# Altium footprint library MM6108IQ MotherBoard.PcbLib: 16 footprints
Each footprint in its own frame and in the unit in brackets; x right, y up, seen from the top. Pads: shape width x height; smd on the part's side, far side on the other; paste and mask are expansions set on the pad; w line width, h text height; cw(c..) or ccw(c..) is an arc to the next point about the centre after c.
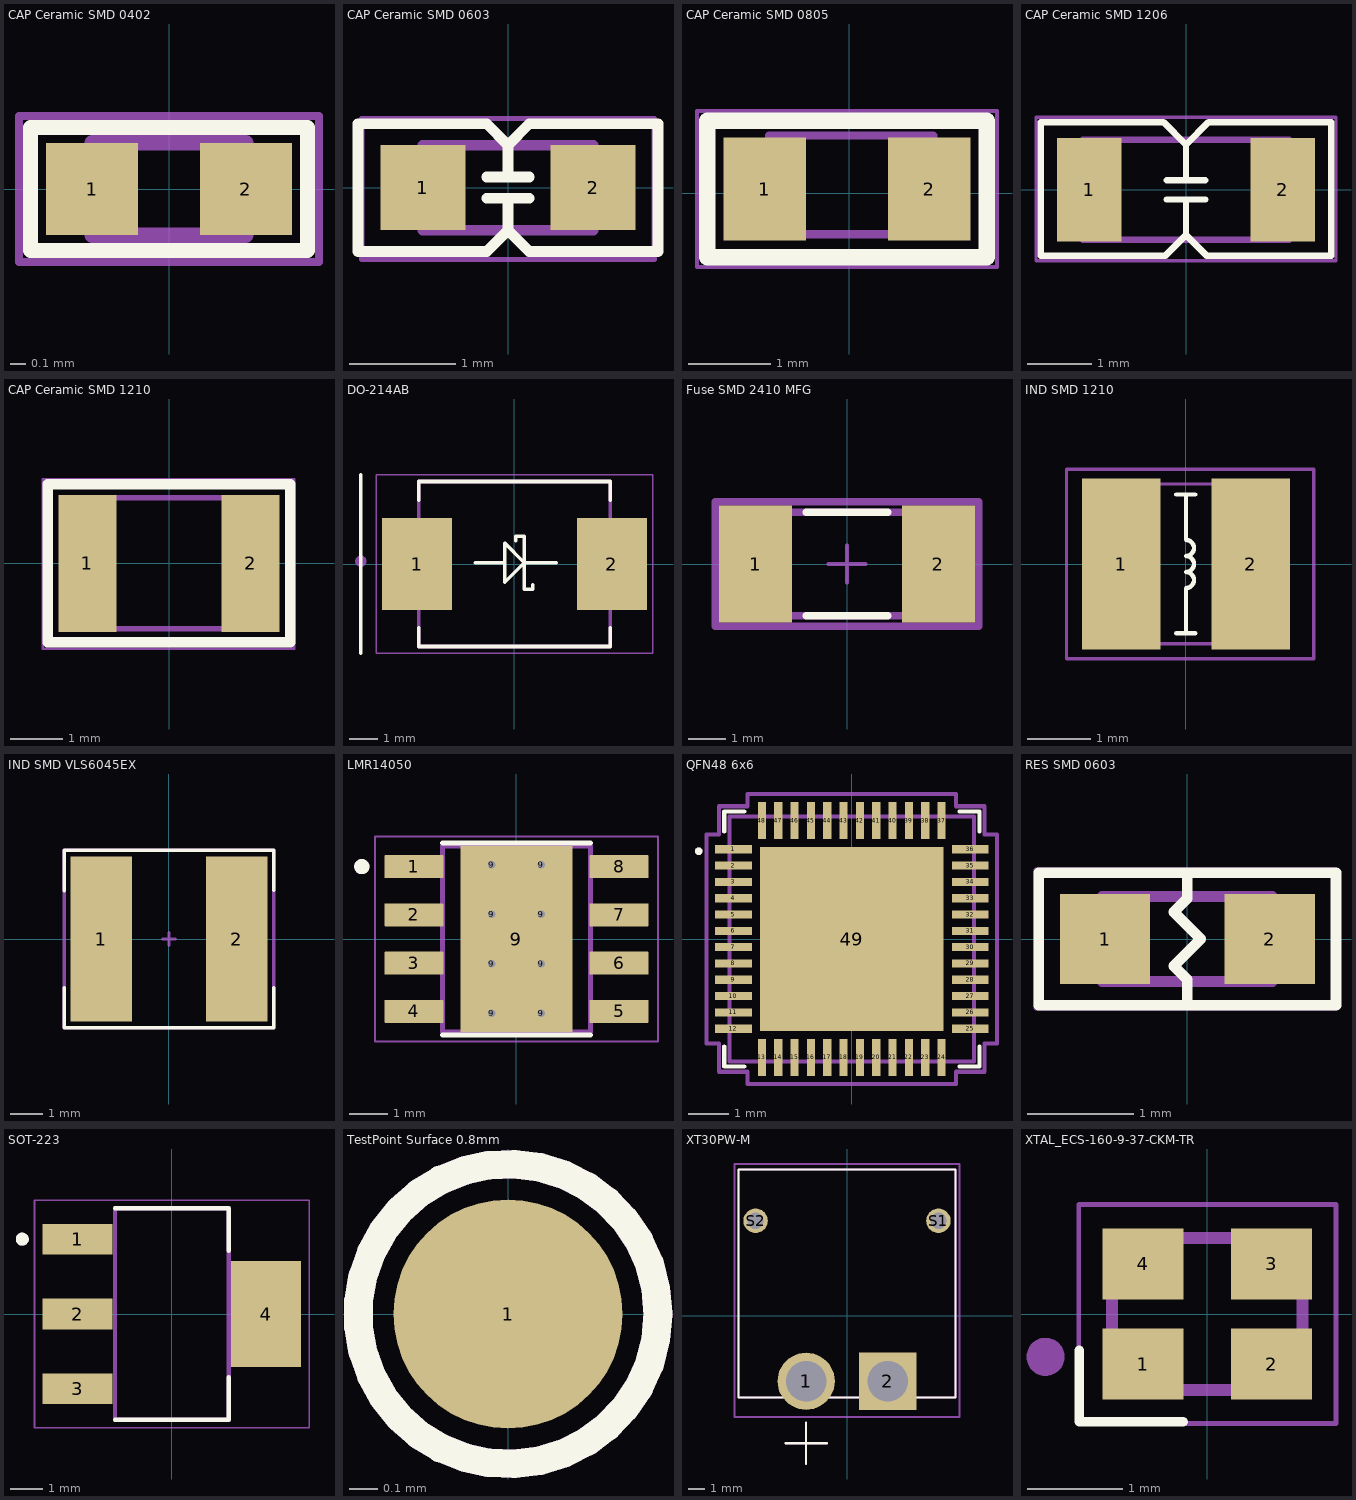
[diagram p0: the footprints below, top view; thin cyan lines are the x and y axes]

## CAP Ceramic SMD 0402 [mm]
pads (2):
  rect 0.6x0.6 smd mask+0.05: 1(-0.5,0) 2(0.5,0)
Top Overlay:
  lines w0.1: -0.9,-0.4 -0.9,0.4 0.9,0.4 0.9,-0.4 -0.9,-0.4
  text ".Comment" at -0.8,0.7 h0.7
Top Designator:
  text ".Designator" at -0.5,-0.2 h0.3
Top 3D Body:
  lines w0.1: -0.5,-0.3 0.5,-0.3 0.5,0.3 -0.5,0.3 -0.5,-0.3
Top Courtyard:
  lines w0.05: -0.975,-0.475 -0.975,0.475 0.975,0.475 0.975,-0.475 -0.975,-0.475
3D body "User Library-0402(1005M) Cap.step": height 0.51, standoff 0, extent -0.508,-0.254 0.508,0.254

## CAP Ceramic SMD 0603 [mm]
pads (2):
  rect 0.8x0.8 smd: 1(-0.8,0) 2(0.8,0)
Top Overlay:
  lines w0.1: -0.2,-0.1 0.2,-0.1 ; -0.2,0.1 0.2,0.1 ; 0,-0.1 0,-0.4 ; 0,0.1 0,0.4 ; 0,-0.4 0.2,-0.6 1.41,-0.6 1.41,0.6 0.2,0.6 0,0.4 ; 0,-0.4 -0.2,-0.6 -1.41,-0.6 -1.41,0.6 -0.2,0.6 0,0.4
  text ".Comment" at -1.775,1.125 h0.7
Top Designator:
  text ".Designator" at -0.873,-0.44 h1
Top 3D Body:
  lines w0.1: -0.8,-0.4 -0.8,0.4 0.8,0.4 0.8,-0.4 -0.8,-0.4
Top Courtyard:
  lines w0.05: -1.375,-0.675 -1.375,0.65 1.375,0.65 1.375,-0.675 -1.375,-0.675
3D body "SW3dPS-0603 SMD Capacitor.STEP": height 0.3, standoff 0, extent -0.8,-0.4 0.8,0.4

## CAP Ceramic SMD 0805 [mm]
pads (2):
  rect 1x1.25 smd: 1(-1.025,0.05) 2(0.975,0.05)
Top Overlay:
  lines w0.2: -1.727,-0.778 1.677,-0.778 1.677,0.881 -1.727,0.881 -1.727,-0.778
  text ".Comment" at -1.325,1.25 h1
Top Designator:
  text ".Designator" at -1.125,-0.517 h1
Top 3D Body:
  lines w0.1: -0.974,-0.5 -0.974,0.7 1.025,0.7 1.025,-0.5 -0.974,-0.5
Top Courtyard:
  lines w0.05: -1.85,-0.9 -1.85,1 1.8,1 1.8,-0.9 -1.85,-0.9
3D body "SW3dPS-0805 SMD Capacitor.STEP": height 0.78, standoff 0, extent -1,-0.525 1,0.725

## CAP Ceramic SMD 1206 [mm]
pads (2):
  rect 1x1.6 smd: 1(-1.5,0) 2(1.5,0)
Top Overlay:
  lines w0.1: -0.3,-0.15 0.3,-0.15 ; -0.3,0.15 0.3,0.15 ; 0,-0.15 0,-0.7 ; 0,0.15 0,0.7 ; 0,-0.7 0.325,-1.025 2.25,-1.025 2.25,1.05 0.35,1.05 0,0.7 ; 0,-0.7 -0.325,-1.025 -2.25,-1.025 -2.25,1.05 -0.35,1.05 0,0.7
  text ".Comment" at -1.273,1.627 h1
Top Designator:
  text ".Designator" at -1.5,-0.667 h1
Top 3D Body:
  lines w0.1: -1.6,-0.775 -1.6,0.775 1.6,0.775 1.6,-0.775 -1.6,-0.775
Top Courtyard:
  lines w0.05: -2.325,-1.1 2.325,-1.1 2.325,1.125 -2.325,1.125 -2.325,-1.1
3D body "SW3dPS-1206 SMD Capacitor.STEP": height 1, standoff 0, extent -1.6,-0.8 1.6,0.8

## CAP Ceramic SMD 1210 [mm]
pads (2):
  rect 1.1x2.6 smd: 1(-1.55,0) 2(1.55,0)
Top Overlay:
  lines w0.2: -2.3,-1.5 -2.3,1.5 2.3,1.5 2.3,-1.5 -2.3,-1.5
  text ".Comment" at -1.673,1.927 h1
Top Designator:
  text ".Designator" at -1.7,-1.067 h1
Top 3D Body:
  lines w0.1: -2,-1.244 2,-1.244 2,1.245 -2,1.245 -2,-1.244
Top Courtyard:
  lines w0.05: -2.4,-1.625 2.375,-1.625 2.375,1.6 -2.4,1.6 -2.4,-1.625
3D body "User Library-1210(3225M) Cap.STEP": height 1.7, standoff 0, extent -2,-1.244 2,1.245

## DO-214AB [mm]
pads (2):
  rect 2.5x3.3 smd: 1(-3.485,0) 2(3.485,0)
Top Overlay:
  lines w0.127: -5.5,-3.2 -5.5,3.2 ; -3.427,-2.286 -3.427,-2.953 3.427,-2.953 3.427,-2.286 ; -3.427,2.286 -3.427,2.953 3.427,2.953 3.427,2.286 ; -1.4,0.05 -0.35,0.05 ; 0.053,0.841 0.05,0.844 0.05,1 0.35,1 ; 0.65,-0.739 0.65,-0.9 0.35,-0.9 0.35,0.05 ; 1.5,0.05 0.35,0.05 ; -0.35,0.05 -0.35,0.75 ; -0.35,0.05 -0.35,0.75 ; -0.35,0.05 -0.35,-0.65 0.35,0.05 ; -0.35,0.75 0.35,0.05 ; 0.35,0.05 0.35,1 ; 0.35,0.05 0.35,1
Top Designator:
  text ".Designator" at -1.95,-0.212 h1.52
Top 3D Body:
  circle w0.2: c-5.5,0.1 r0.1
  lines w0.127: -3.427,-2.953 -3.427,2.953 3.427,2.953 3.427,-2.953 -3.427,-2.953
Top Courtyard:
  lines w0.05: -4.953,-3.203 -4.953,3.203 4.953,3.203 4.953,-3.203 -4.953,-3.203
3D body "SMCJ70CA--3DModel-STEP-56544.STEP": height 2.62, standoff 0, extent -3.969,-2.953 3.969,2.953

## Fuse SMD 2410 MFG [mm]
pads (2):
  rect 1.96x3.15 smd paste+0 mask+0: 1(-2.455,0) 2(2.455,0)
Top Overlay:
  lines w0.2: -1.1,-1.395 1.1,-1.395 ; -1.1,1.395 1.1,1.395
Top Component Center:
  lines w0.1: -0.5,0 0.5,0 ; 0,-0.5 0,0.5
Top Assembly:
  lines w0.2: -3.535,-1.675 -3.535,1.675 3.535,1.675 3.535,-1.675 -3.535,-1.675
  text ".Designator" at 0,0.189 h1
Top 3D Body:
  lines w0.2: -3.175,-1.395 -3.175,1.395 3.175,1.395 3.175,-1.395 -3.175,-1.395
Top Courtyard:
  lines w0.2: -3.535,-1.675 -3.535,1.675 3.535,1.675 3.535,-1.675 -3.535,-1.675
3D body "Fuse_Bel_Fuse_0679L9150-01_eec.STEP": height 0.25, standoff 0, extent -3.535,-1.675 3.535,1.675

## IND SMD 1210 [mm]
pads (2):
  rect 1.25x2.7 smd: 1(-1.025,0) 2(1.025,0)
Top Overlay:
  lines w0.07: -0.153,-1.099 0.147,-1.099 ; -0.153,1.101 0.147,1.101 ; 0,-1.099 0,-0.381 ccw(c0,-0.254) 0,-0.127 ccw(c0,0) 0,0.127 ccw(c0,0.254) 0,0.381 0,1.101
Top Component Center:
  lines w0.05: -1.616,-1.262 1.575,-1.262 1.575,1.268 -1.616,1.268 -1.616,-1.262
Top Designator:
  text ".Designator" at -1.617,-0.143 h0.8
Top Courtyard:
  lines w0.05: -1.893,-1.5 -1.893,1.5 2.023,1.5 2.023,-1.5 -1.893,-1.5
3D body "Download_STP_WE-PMCI-1210+%28rev1%29.stp": height 1.01, standoff 0.01, extent -1.597,-1.25 1.597,1.25

## IND SMD VLS6045EX [mm]
pads (2):
  rect 1.9x5.1 smd: 1(-2.1,0) 2(2.1,0)
Top Overlay:
  lines w0.1: -3.25,-1.5 -3.25,-2.75 3.25,-2.75 3.25,-1.5 ; -3.25,1.494 -3.25,2.75 3.25,2.75 3.25,1.5
Top Designator:
  text ".Designator" at -3.218,-2.208 h1.52
Top 3D Body:
  lines w0.1: -3.25,2.75 -3.25,-2.75 3.25,-2.75 3.25,2.75 -3.241,2.75
Top Courtyard:
  lines w0.1: -0.2,0 0.2,0 ; 0,-0.2 0,0.2 ; -3.25,-2.75 3.25,-2.75 3.25,2.75 -3.25,2.75 -3.25,-2.75
3D body "VLS6045EX150M.STEP": height 4.51, standoff 0.01, extent -3,-3 3,3

## LMR14050 [mm]
pads (17):
  rrect5% 1.55x0.6 smd mask+0: 1(-2.7,1.905) 2(-2.7,0.635) 3(-2.7,-0.635) 4(-2.7,-1.905) 5(2.7,-1.905) 6(2.7,-0.635) 7(2.7,0.635) 8(2.7,1.905)
  round 0.3 hole 0.2: 9(-0.65,-1.95) 9(-0.65,-0.65) 9(-0.65,0.65) 9(-0.65,1.95) 9(0.65,-1.95) 9(0.65,-0.65) 9(0.65,0.65) 9(0.65,1.95)
  rect 2.95x4.9 smd paste-3 mask+0: 9(0,0)
Top Overlay:
  circle w0.2: c-4.07,1.905 r0.1
  lines w0.127: -1.95,-2.525 1.95,-2.525 ; -1.95,2.525 1.95,2.525
Top Paste:
  region: 1.355,-1.7 -1.355,-1.7 -1.355,1.7 1.355,1.7
Top Solder:
  drawing of 9 lines, arcs and shapes, not listed
Top Component Outline:
  circle w0.2: c-4.07,1.905 r0.1
  lines w0.127: -1.95,-2.45 1.95,-2.45 1.95,2.45 -1.95,2.45 -1.95,-2.45
Top Courtyard:
  lines w0.05: -3.725,-2.7 3.725,-2.7 3.725,2.7 -3.725,2.7 -3.725,-2.7
3D body "step_temp.STEP": height 1.7, standoff 0, extent -3,-2.45 3,2.45

## QFN48 6x6 [mm]
pads (49):
  rect 0.9x0.2 smd: 1(-2.9,2.2) 2(-2.9,1.8) 3(-2.9,1.4) 4(-2.9,1) 5(-2.9,0.6) 6(-2.9,0.2) 7(-2.9,-0.2) 8(-2.9,-0.6) 9(-2.9,-1) 10(-2.9,-1.4) 11(-2.9,-1.8) 12(-2.9,-2.2) 25(2.9,-2.2) 26(2.9,-1.8) 27(2.9,-1.4) 28(2.9,-1) 29(2.9,-0.6) 30(2.9,-0.2) 31(2.9,0.2) 32(2.9,0.6) 33(2.9,1) 34(2.9,1.4) 35(2.9,1.8) 36(2.9,2.2)
  rect 0.2x0.9 smd: 13(-2.2,-2.9) 14(-1.8,-2.9) 15(-1.4,-2.9) 16(-1,-2.9) 17(-0.6,-2.9) 18(-0.2,-2.9) 19(0.2,-2.9) 20(0.6,-2.9) 21(1,-2.9) 22(1.4,-2.9) 23(1.8,-2.9) 24(2.2,-2.9) 37(2.2,2.9) 38(1.8,2.9) 39(1.4,2.9) 40(1,2.9) 41(0.6,2.9) 42(0.2,2.9) 43(-0.2,2.9) 44(-0.6,2.9) 45(-1,2.9) 46(-1.4,2.9) 47(-1.8,2.9) 48(-2.2,2.9)
  rect 4.5x4.5 smd: 49(0,0)
Top Overlay:
  circle w0.1: c-3.75,2.15 r0.041
  lines w0.1: -3.124,-2.634 -3.124,-3.124 -2.634,-3.124 ; -3.124,2.634 -3.124,3.124 -2.634,3.124 ; 2.634,-3.124 3.124,-3.124 3.124,-2.634 ; 2.634,3.124 3.124,3.124 3.124,2.634
Top Paste:
  region: 1.602,-0.1 0.1,-0.1 0.1,-1.602 1.602,-1.602
  region: 1.602,1.602 0.1,1.602 0.1,0.1 1.602,0.1
  region: -0.1,-0.1 -1.602,-0.1 -1.602,-1.602 -0.1,-1.602
  region: -0.1,1.602 -1.602,1.602 -1.602,0.1 -0.1,0.1
Top Component Outline:
  circle w0.1: c-3.75,2.15 r0.041
  lines w0.1: -2.997,-2.997 2.997,-2.997 2.997,2.997 -2.997,2.997 -2.997,-2.997 ; -2.997,-2.327 -2.997,-2.073 -2.997,-2.327 ; -2.997,-1.927 -2.997,-1.673 -2.997,-1.927 ; -2.997,-1.527 -2.997,-1.273 -2.997,-1.527 ; -2.997,-1.127 -2.997,-0.873 -2.997,-1.127 ; -2.997,-0.727 -2.997,-0.473 -2.997,-0.727 ; -2.997,-0.327 -2.997,-0.073 -2.997,-0.327 ; -2.997,0.073 -2.997,0.327 -2.997,0.073 ; -2.997,0.473 -2.997,0.727 -2.997,0.473 ; -2.997,0.873 -2.997,1.127 -2.997,0.873 ; -2.997,1.273 -2.997,1.527 -2.997,1.273 ; -2.997,1.673 -2.997,1.927 -2.997,1.673 ; -2.997,2.073 -2.997,2.327 -2.997,2.073 ; -2.327,-2.997 -2.073,-2.997 -2.327,-2.997 ; -2.327,2.997 -2.073,2.997 -2.327,2.997 ; -1.927,-2.997 -1.673,-2.997 -1.927,-2.997 ; -1.927,2.997 -1.673,2.997 -1.927,2.997 ; -1.527,-2.997 -1.273,-2.997 -1.527,-2.997 ; -1.527,2.997 -1.273,2.997 -1.527,2.997 ; -1.127,-2.997 -0.873,-2.997 -1.127,-2.997 ; -1.127,2.997 -0.873,2.997 -1.127,2.997 ; -0.727,-2.997 -0.473,-2.997 -0.727,-2.997 ; -0.727,2.997 -0.473,2.997 -0.727,2.997 ; -0.327,-2.997 -0.073,-2.997 -0.327,-2.997 ; -0.327,2.997 -0.073,2.997 -0.327,2.997 ; 0.073,-2.997 0.327,-2.997 0.073,-2.997 ; 0.073,2.997 0.327,2.997 0.073,2.997 ; 0.473,-2.997 0.727,-2.997 0.473,-2.997 ; 0.473,2.997 0.727,2.997 0.473,2.997 ; 0.873,-2.997 1.127,-2.997 0.873,-2.997 ; 0.873,2.997 1.127,2.997 0.873,2.997 ; 1.273,-2.997 1.527,-2.997 1.273,-2.997 ; 1.273,2.997 1.527,2.997 1.273,2.997 ; 1.673,-2.997 1.927,-2.997 1.673,-2.997 ; 1.673,2.997 1.927,2.997 1.673,2.997 ; 2.073,-2.997 2.327,-2.997 2.073,-2.997 ; 2.073,2.997 2.327,2.997 2.073,2.997 ; 2.997,-2.327 2.997,-2.073 2.997,-2.327 ; 2.997,-1.927 2.997,-1.673 2.997,-1.927 ; 2.997,-1.527 2.997,-1.273 2.997,-1.527 ; 2.997,-1.127 2.997,-0.873 2.997,-1.127 ; 2.997,-0.727 2.997,-0.473 2.997,-0.727 ; 2.997,-0.327 2.997,-0.073 2.997,-0.327 ; 2.997,0.073 2.997,0.327 2.997,0.073 ; 2.997,0.473 2.997,0.727 2.997,0.473 ; 2.997,0.873 2.997,1.127 2.997,0.873 ; 2.997,1.273 2.997,1.527 2.997,1.273 ; 2.997,1.673 2.997,1.927 2.997,1.673 ; 2.997,2.073 2.997,2.327 2.997,2.073
Top Designator:
  text ".Designator" at -3.121,-0.319 h1.5
Top Courtyard:
  lines w0.1: -3.556,-2.556 -3.556,2.556 -3.251,2.556 -3.251,3.251 -2.556,3.251 -2.556,3.556 2.556,3.556 2.556,3.251 3.251,3.251 3.251,2.556 3.556,2.556 3.556,-2.556 3.251,-2.556 3.251,-3.251 2.556,-3.251 2.556,-3.556 -2.556,-3.556 -2.556,-3.251 -3.251,-3.251 -3.251,-2.556 -3.556,-2.556
3D body "QFN48_6X6X0P9_MCH.step": height 0.89, standoff 0, extent -2.997,-2.997 2.997,2.997

## RES SMD 0603 [mm]
pads (2):
  rect 0.85x0.85 smd: 1(-0.775,0) 2(0.775,0)
Top Overlay:
  lines w0.1: 0,-0.625 0,-0.381 -0.127,-0.254 0.127,0 -0.127,0.254 0,0.381 0,0.625 ; -1.4,-0.625 1.4,-0.625 1.4,0.625 -1.4,0.625 -1.4,-0.625
Top Designator:
  text ".Designator" at -0.873,-0.44 h1
Top 3D Body:
  lines w0.1: -0.8,-0.4 -0.8,0.4 0.8,0.4 0.8,-0.4 -0.8,-0.4
Top Courtyard:
  lines w0.05: -1.425,-0.65 -1.425,0.65 1.4,0.65 1.4,-0.65 -1.425,-0.65
3D body "chip_0603_r.STEP": height 0.44, standoff -0.02, extent -0.8,-0.4 0.8,0.4

## SOT-223 [mm]
pads (4):
  rect 2.15x0.95 smd mask+0.05: 1(-2.9,2.3) 2(-2.9,0) 3(-2.9,-2.3)
  rect 2.15x3.25 smd mask+0.05: 4(2.9,0)
Top Overlay:
  circle w0.2: c-4.6,2.3 r0.1
  lines w0.127: -1.75,-3.25 1.75,-3.25 1.75,-1.945 ; -1.75,3.25 1.75,3.25 1.75,1.945
Top 3D Body:
  circle w0.2: c-4.6,2.3 r0.1
  lines w0.127: -1.75,-3.25 -1.75,3.25 1.75,3.25 1.75,-3.25 -1.75,-3.25
Top Courtyard:
  lines w0.05: -4.225,-3.5 -4.225,3.5 4.225,3.5 4.225,-3.5 -4.225,-3.5
3D body "step_temp.STEP": height 1.8, standoff 0, extent -3.5,-3.25 3.5,3.25

## TestPoint Surface 0.8mm [mm]
pads (1):
  round 0.8 smd mask+0.05: 1(0,0)
Top Overlay:
  circle w0.1: c0,0 r0.524
  text ".Comment" at -2.149,0.843 h0.6
Top Designator:
  text ".Designator" at -2.999,-0.2 h0.6
Top Courtyard:
  circle w0.1: c0,0 r0.524
  circle w0.1: c0,0 r0.524

## XT30PW-M [mm]
pads (4):
  round 3.5 hole 2.5: 1(-2.5,-4)
  rect 3.5x3.5 hole 2.5: 2(2.5,-4)
  round 1.5 hole 1: S1(5.6,5.818) S2(-5.6,5.818)
Top Overlay:
  lines w0.127: -3.77,-7.8 -2.5,-7.8 ; -2.5,-9.07 -2.5,-7.8 ; -2.5,-6.53 -2.5,-7.8 ; -1.23,-7.8 -2.5,-7.8 ; 6.629,8.971 -6.65,8.971 -6.65,-4.999 6.65,-4.999 6.65,8.971
Top Designator:
  text ".Designator" at -3.318,1.292 h1.52
Top 3D Body:
  lines w0.127: -3.77,-7.8 -2.5,-7.8 ; -2.5,-9.07 -2.5,-7.8 ; -2.5,-6.53 -2.5,-7.8 ; -1.23,-7.8 -2.5,-7.8 ; 6.629,8.971 -6.65,8.971 -6.65,-5 6.65,-5 6.65,8.971
Top Courtyard:
  lines w0.128: -6.9,-6.2 -6.9,9.3 6.9,9.3 6.9,-6.2 -6.9,-6.2
3D body "Amass_XT30PW-M_pcb solder.stp": height 5.5, standoff -2.95, extent -6.65,-5.05 6.65,8.9

## XTAL_ECS-160-9-37-CKM-TR [mm]
pads (4):
  rect 0.85x0.75 smd: 1(-0.675,-0.525) 2(0.675,-0.525) 3(0.675,0.525) 4(-0.675,0.525)
Top Overlay:
  lines w0.1: -1.347,-0.381 -1.347,-1.134 -0.254,-1.134
Top 3D Body:
  circle w0.2: c-1.7,-0.45 r0.1
  lines w0.127: -1,-0.8 1,-0.8 1,0.8 -1,0.8 -1,-0.8
Top Courtyard:
  lines w0.05: -1.35,-1.15 1.35,-1.15 1.35,1.15 -1.35,1.15 -1.35,-1.15
3D body "step_temp.STEP": height 0.5, standoff 0, extent -1,-0.8 1,0.8